# Altium footprint library c3528_21.PcbLib: 1 footprints
Each footprint in its own frame and in the unit in brackets; x right, y up, seen from the top. Pads: shape width x height; smd on the part's side, far side on the other; paste and mask are expansions set on the pad; w line width, h text height; cw(c..) or ccw(c..) is an arc to the next point about the centre after c.
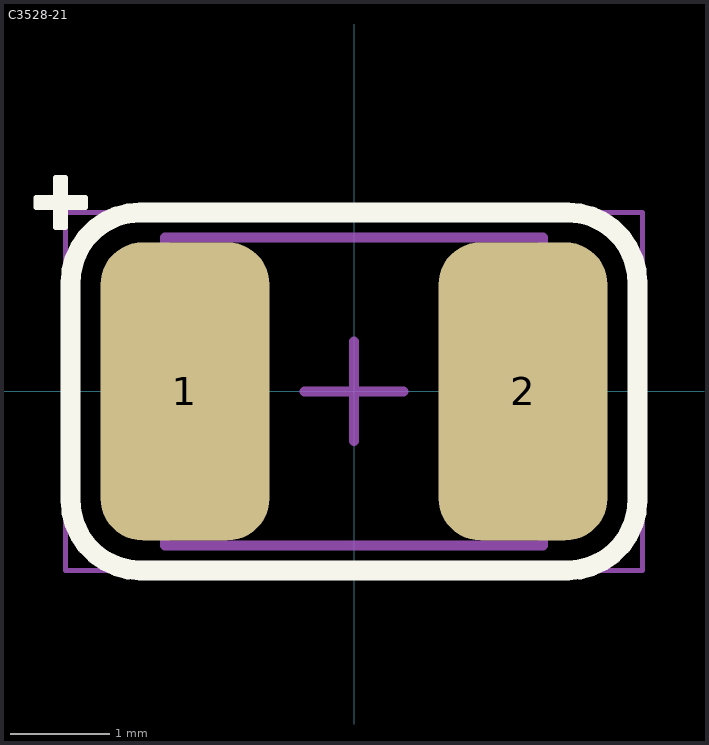
[diagram p0: the footprint, top view; thin cyan lines are the x and y axes]

## C3528-21 [mm] "Chip Polar Capacitor, 2-Leads, Body 3,50x2,80mm, IPC Medium Density"
height 2.1
pads (2):
  rrect50% 1.7x3 smd: 1(-1.7,0) 2(1.7,0)
Top Layer:
  lines w0.05: 2.425,-0.75 2.45,-0.75
Top Overlay:
  rectangle: -3.2,1.85 -2.7,1.95
  rectangle: -3,1.65 -2.9,2.15
  lines w0.05: -3.2,1.85 -3.2,1.95 -3,1.95 -3,2.15 -2.9,2.15 -2.9,1.95 -2.7,1.95 -2.7,1.85 -2.9,1.85 -2.9,1.65 -3,1.65 -3,1.85 -3.2,1.85
  lines w0.2: -2.85,-1.1 ccw(c-2.15,-1.1) -2.15,-1.8 2.15,-1.8 ccw(c2.15,-1.1) 2.85,-1.1 2.85,1.1 ccw(c2.15,1.1) 2.15,1.8 -2.15,1.8 ccw(c-2.15,1.1) -2.85,1.1 -2.85,-1.1
Top Comment:
  text ".Comment" at 1,2 h1.2
Top Designator:
  text ".Designator" at -0.5,2 h1.2
Top Component Outline:
  lines w0.1: -1.9,-1.55 1.9,-1.55 1.9,1.55 -1.9,1.55 -1.9,-1.55
Top Courtyard (Mech15):
  lines w0.05: -2.9,-1.8 2.9,-1.8 2.9,1.8 -2.9,1.8 -2.9,-1.8
  lines w0.1: -0.5,0 0.5,0 ; 0,-0.5 0,0.5
3D body "C3528-21.STEP": height 2.13, standoff 0.01, extent -1.867,-1.539 1.867,1.535